# Altium footprint library SnapEDApcb.PcbLib: 1 footprints
Each footprint in its own frame and in the unit in brackets; x right, y up, seen from the top. Pads: shape width x height; smd on the part's side, far side on the other; paste and mask are expansions set on the pad; w line width, h text height; cw(c..) or ccw(c..) is an arc to the next point about the centre after c.
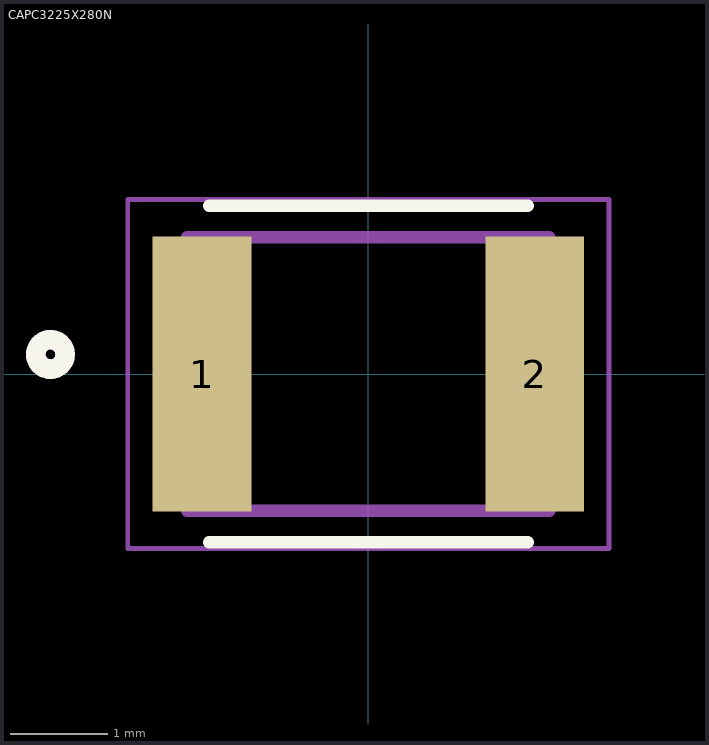
[diagram p0: the footprint, top view; thin cyan lines are the x and y axes]

## CAPC3225X280N [mm]
pads (2):
  rect 1.01x2.81 smd: 1(-1.7,0) 2(1.7,0)
Top Overlay:
  circle w0.2: c-3.25,0.2 r0.15
  lines w0.127: -1.63,-1.72 1.63,-1.72 ; -1.63,1.72 1.63,1.72
Mechanical 13:
  circle w0.2: c-3.25,0.2 r0.15
  lines w0.127: -1.85,-1.4 -1.85,1.4 1.85,1.4 1.85,-1.4 -1.85,-1.4
Mechanical 15:
  lines w0.05: -2.46,-1.784 2.46,-1.784 2.46,1.784 -2.46,1.784 -2.46,-1.784